# EAGLE library part MT41K512M16HA-125__A (library MT41K512M16HA-125__A)
DRAM 8G 1.35V 512Mx16 800MHz DDR3 0C-90C Source: Datasheet <https://www.alliancememory.com/wp-content/uploads/pdf/micron/Micron_8Gb_DDR3_SDRAM_PartNo.MT41K512M16HA-107_125.pdf>
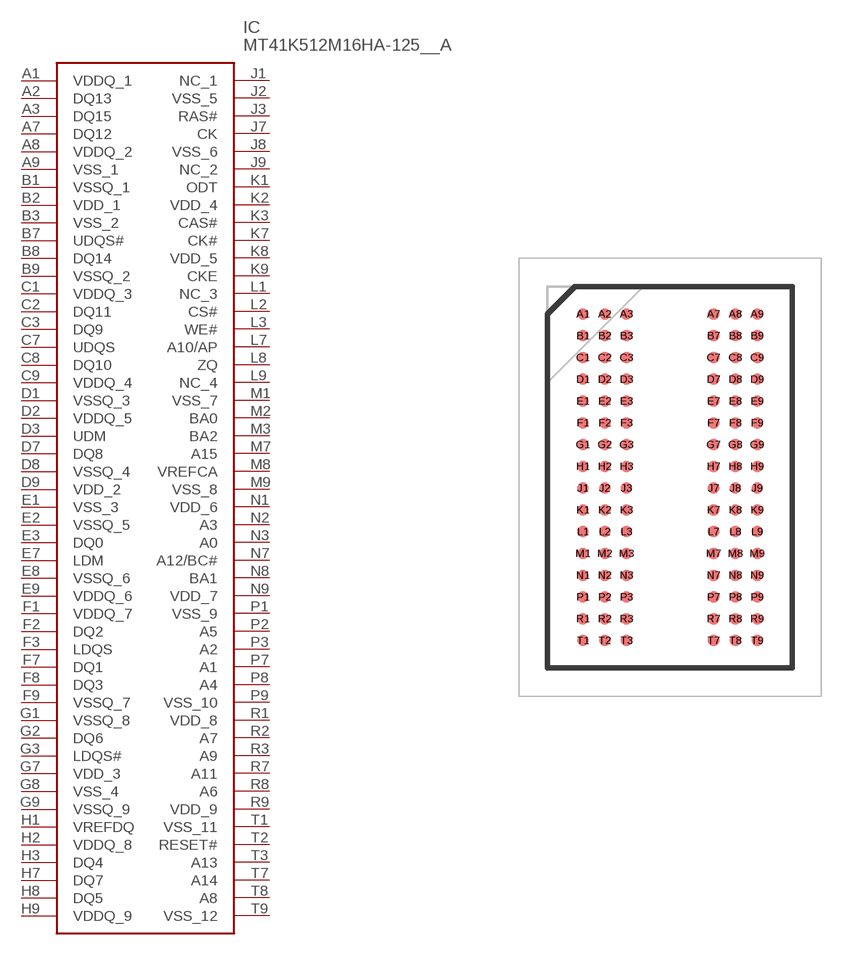
[diagram p0: symbol with the pads of BGA96C80P9X16_900X1400X120; footprint BGA96C80P9X16_900X1400X120]

Designator prefix IC

## MT41K512M16HA-125__A (Description: DRAM 8G 1.35V 512Mx16 800MHz DDR3 0C-90C; Height: 1.2mm; Manufacturer_Name: Alliance Memory; Manufacturer_Part_Number: MT41K512M16HA-125 :A; Mouser_Part_Number: 913-41K512M16HA125A; Mouser_Price-Stock: https://www.mouser.co.uk/ProductDetail/Alliance-Memory/MT41K512M16HA-125-A?qs=l7cgNqFNU1j3BBLYnUD87Q%3D%3D)  [BGA96C80P9X16_900X1400X120]
A1  VDDQ_1
A2  DQ13
A3  DQ15
A7  DQ12
A8  VDDQ_2
A9  VSS_1
B1  VSSQ_1
B2  VDD_1
B3  VSS_2
B7  UDQS#
B8  DQ14
B9  VSSQ_2
C1  VDDQ_3
C2  DQ11
C3  DQ9
C7  UDQS
C8  DQ10
C9  VDDQ_4
D1  VSSQ_3
D2  VDDQ_5
D3  UDM
D7  DQ8
D8  VSSQ_4
D9  VDD_2
E1  VSS_3
E2  VSSQ_5
E3  DQ0
E7  LDM
E8  VSSQ_6
E9  VDDQ_6
F1  VDDQ_7
F2  DQ2
F3  LDQS
F7  DQ1
F8  DQ3
F9  VSSQ_7
G1  VSSQ_8
G2  DQ6
G3  LDQS#
G7  VDD_3
G8  VSS_4
G9  VSSQ_9
H1  VREFDQ
H2  VDDQ_8
H3  DQ4
H7  DQ7
H8  DQ5
H9  VDDQ_9
J1  NC_1
J2  VSS_5
J3  RAS#
J7  CK
J8  VSS_6
J9  NC_2
K1  ODT
K2  VDD_4
K3  CAS#
K7  CK#
K8  VDD_5
K9  CKE
L1  NC_3
L2  CS#
L3  WE#
L7  A10/AP
L8  ZQ
L9  NC_4
M1  VSS_7
M2  BA0
M3  BA2
M7  A15
M8  VREFCA
M9  VSS_8
N1  VDD_6
N2  A3
N3  A0
N7  A12/BC#
N8  BA1
N9  VDD_7
P1  VSS_9
P2  A5
P3  A2
P7  A1
P8  A4
P9  VSS_10
R1  VDD_8
R2  A7
R3  A9
R7  A11
R8  A6
R9  VDD_9
T1  VSS_11
T2  RESET#
T3  A13
T7  A14
T8  A8
T9  VSS_12

## Footprint BGA96C80P9X16_900X1400X120 (pad centres in mm)
96-Ball FBGA – x16 (HA)
smd 0.426 x 0.426: A1 -3.2,6; A2 -2.4,6; A3 -1.6,6; A7 1.6,6; A8 2.4,6; A9 3.2,6; B1 -3.2,5.2; B2 -2.4,5.2; B3 -1.6,5.2; B7 1.6,5.2; B8 2.4,5.2; B9 3.2,5.2; C1 -3.2,4.4; C2 -2.4,4.4; C3 -1.6,4.4; C7 1.6,4.4; C8 2.4,4.4; C9 3.2,4.4; D1 -3.2,3.6; D2 -2.4,3.6; D3 -1.6,3.6; D7 1.6,3.6; D8 2.4,3.6; D9 3.2,3.6; E1 -3.2,2.8; E2 -2.4,2.8; E3 -1.6,2.8; E7 1.6,2.8; E8 2.4,2.8; E9 3.2,2.8; F1 -3.2,2; F2 -2.4,2; F3 -1.6,2; F7 1.6,2; F8 2.4,2; F9 3.2,2; G1 -3.2,1.2; G2 -2.4,1.2; G3 -1.6,1.2; G7 1.6,1.2; G8 2.4,1.2; G9 3.2,1.2; H1 -3.2,0.4; H2 -2.4,0.4; H3 -1.6,0.4; H7 1.6,0.4; H8 2.4,0.4; H9 3.2,0.4; J1 -3.2,-0.4; J2 -2.4,-0.4; J3 -1.6,-0.4; J7 1.6,-0.4; J8 2.4,-0.4; J9 3.2,-0.4; K1 -3.2,-1.2; K2 -2.4,-1.2; K3 -1.6,-1.2; K7 1.6,-1.2; K8 2.4,-1.2; K9 3.2,-1.2; L1 -3.2,-2; L2 -2.4,-2; L3 -1.6,-2; L7 1.6,-2; L8 2.4,-2; L9 3.2,-2; M1 -3.2,-2.8; M2 -2.4,-2.8; M3 -1.6,-2.8; M7 1.6,-2.8; M8 2.4,-2.8; M9 3.2,-2.8; N1 -3.2,-3.6; N2 -2.4,-3.6; N3 -1.6,-3.6; N7 1.6,-3.6; N8 2.4,-3.6; N9 3.2,-3.6; P1 -3.2,-4.4; P2 -2.4,-4.4; P3 -1.6,-4.4; P7 1.6,-4.4; P8 2.4,-4.4; P9 3.2,-4.4; R1 -3.2,-5.2; R2 -2.4,-5.2; R3 -1.6,-5.2; R7 1.6,-5.2; R8 2.4,-5.2; R9 3.2,-5.2; T1 -3.2,-6; T2 -2.4,-6; T3 -1.6,-6; T7 1.6,-6; T8 2.4,-6; T9 3.2,-6